# Altium footprint library SOIC127P700X210-4N.PcbLib: 1 footprints
Each footprint in its own frame and in the unit in brackets; x right, y up, seen from the top. Pads: shape width x height; smd on the part's side, far side on the other; paste and mask are expansions set on the pad; w line width, h text height; cw(c..) or ccw(c..) is an arc to the next point about the centre after c.
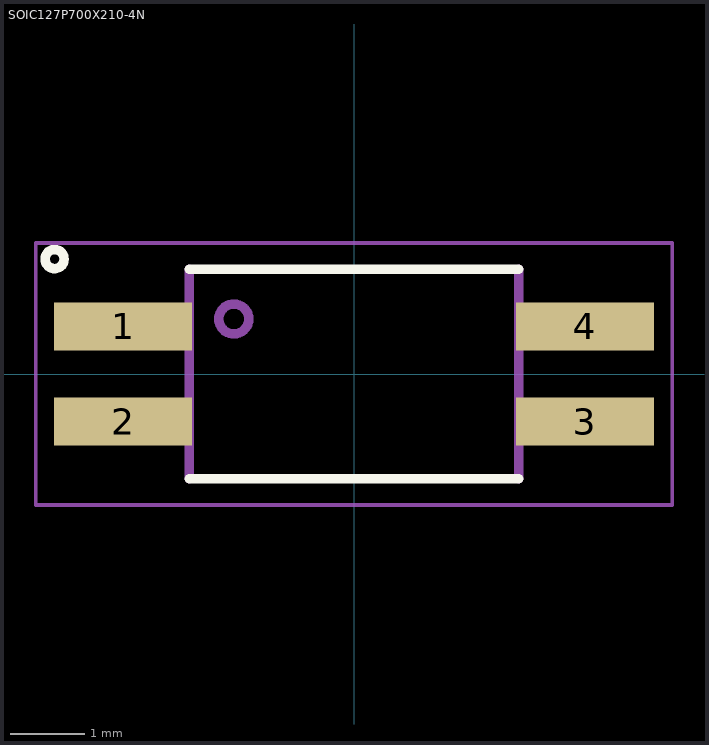
[diagram p0: the footprint, top view; thin cyan lines are the x and y axes]

## SOIC127P700X210-4N [mm]
pads (4):
  rect 1.84x0.64 smd: 1(-3.085,0.635) 2(-3.085,-0.635) 3(3.085,-0.635) 4(3.085,0.635)
Top Overlay:
  circle w0.127: c-3.999,1.535 r0.127
  lines w0.127: -2.2,-1.4 2.2,-1.4 ; -2.2,1.4 2.2,1.4
Mechanical 13:
  circle w0.127: c-1.605,0.735 r0.2
  lines w0.127: -2.2,-1.4 -2.2,1.4 ; 2.2,-1.4 2.2,1.4
Mechanical 15:
  lines w0.05: -4.25,-1.75 4.25,-1.75 4.25,1.75 -4.25,1.75 -4.25,-1.75
3D body "VOS618A-7T.STEP": height 2.1, standoff 0, extent -3.5,-1.425 3.5,1.425